# Altium schematic symbol library IC_InvenSense_MPU-6500_eec.SchLib: 1 symbol
Pins are listed as number, name and electrical type; pins without a type are passive.

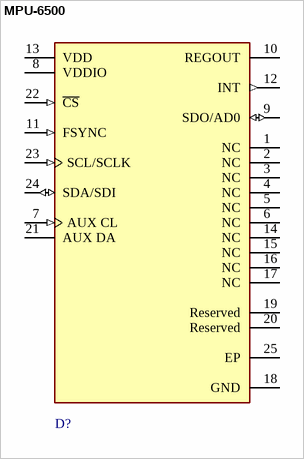
[diagram p0: symbol MPU-6500]

## MPU-6500
designator D?  (value not drawn)
footprint InvenSense_QFN24-1700X1540TP_0
pins: 1 NC, 2 NC, 3 NC, 4 NC, 5 NC, 6 NC, 7 AUX CL (in), 8 VDDIO (power), 9 SDO/AD0 (io), 10 REGOUT, 11 FSYNC (in), 12 INT (out), 13 VDD (power), 14 NC, 15 NC, 16 NC, 17 NC, 18 GND (power), 19 Reserved, 20 Reserved, 21 AUX DA, 22 ~{CS} (in), 23 SCL/SCLK (in), 24 SDA/SDI (io), 25 EP (power)